# EAGLE library part LTC4071 (library EricB_custom)
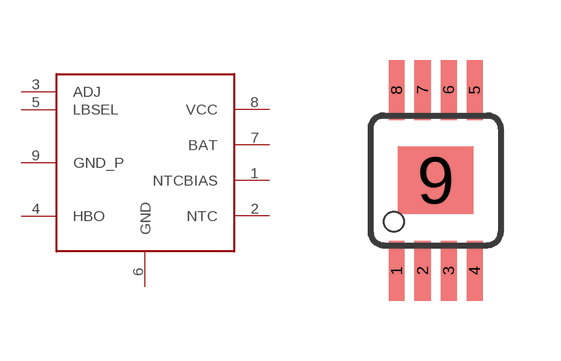
[diagram p9: symbol with the pads of MSOP8; footprint MSOP8]

Designator prefix -

## LTC4071  [MSOP8]
1  NTCBIAS
2  NTC
3  ADJ
4  HBO
5  LBSEL
6  GND
7  BAT
8  VCC
9  GND_P

## Footprint MSOP8 (pad centres in mm)
smd 0.4 x 1.5: 1 -0.976,-2.263; 2 -0.326,-2.263; 3 0.324,-2.263; 4 0.974,-2.263; 5 0.974,2.262; 6 0.324,2.262; 7 -0.326,2.262; 8 -0.976,2.262
smd 1.88 x 1.68: 9 0,0